# Altium footprint library QFN.PcbLib: 6 footprints
Each footprint in its own frame and in the unit in brackets; x right, y up, seen from the top. Pads: shape width x height; smd on the part's side, far side on the other; paste and mask are expansions set on the pad; w line width, h text height; cw(c..) or ccw(c..) is an arc to the next point about the centre after c.
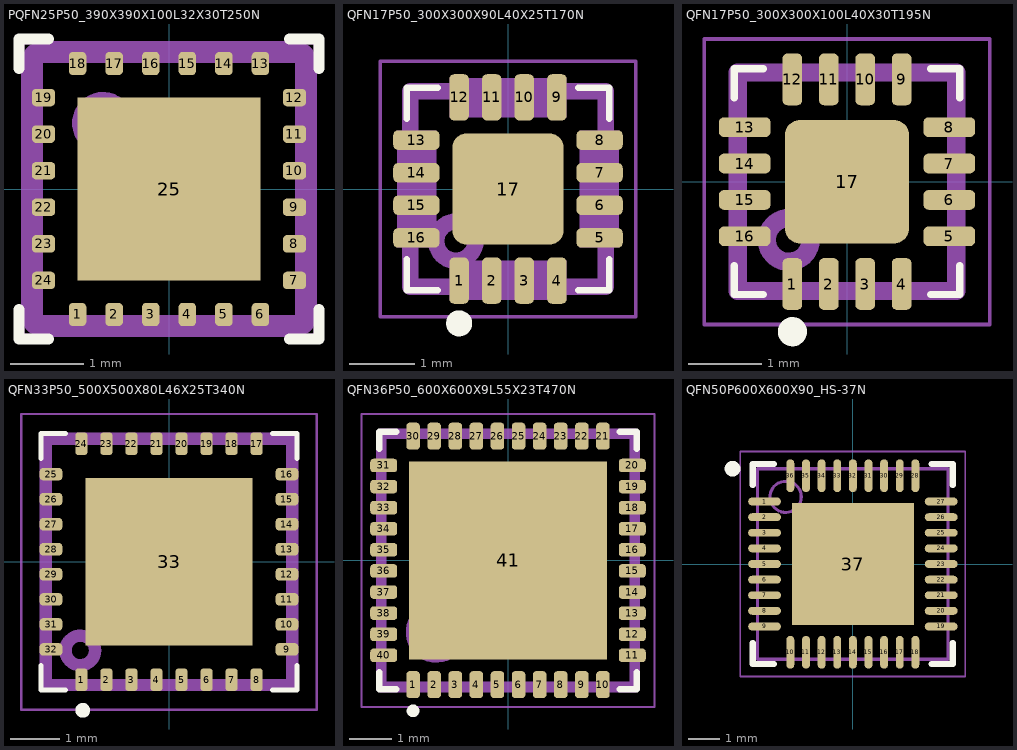
[diagram p0: the footprints below, top view; thin cyan lines are the x and y axes]

## PQFN25P50_390X390X100L32X30T250N [mm] "Pullback Quad Flat No-Lead (PQFN with Tab), 0.50 mm pitch; square, 6 pin X 6 pin, 3.90 mm L X 3.90 mm W X 1.00 mm H body"
height 1
pads (25):
  rrect51% 0.24x0.32 smd: 1(-1.25,-1.715) 2(-0.75,-1.715) 3(-0.25,-1.715) 4(0.25,-1.715) 5(0.75,-1.715) 6(1.25,-1.715) 13(1.25,1.715) 14(0.75,1.715) 15(0.25,1.715) 16(-0.25,1.715) 17(-0.75,1.715) 18(-1.25,1.715)
  rrect51% 0.32x0.24 smd: 7(1.715,-1.25) 8(1.715,-0.75) 9(1.715,-0.25) 10(1.715,0.25) 11(1.715,0.75) 12(1.715,1.25) 19(-1.715,1.25) 20(-1.715,0.75) 21(-1.715,0.25) 22(-1.715,-0.25) 23(-1.715,-0.75) 24(-1.715,-1.25)
  rect 2.5x2.5 smd: 25(0,0)
Top Overlay:
  lines w0.15: -2.05,-1.65 -2.05,-2.05 -1.65,-2.05 ; -2.05,1.65 -2.05,2.05 -1.65,2.05 ; 1.65,-2.05 2.05,-2.05 2.05,-1.65 ; 1.65,2.05 2.05,2.05 2.05,1.65
Top Paste:
  region: -0.185,-1.065 -1.065,-1.065 -1.065,-0.185 -0.185,-0.185
  region: -0.185,0.185 -1.065,0.185 -1.065,1.065 -0.185,1.065
  region: 1.065,-1.065 0.185,-1.065 0.185,-0.185 1.065,-0.185
  region: 1.065,0.185 0.185,0.185 0.185,1.065 1.065,1.065
Top Assembly:
  circle w0.25: c-0.9,0.9 r0.3
  lines w0.25: -1.85,-1.85 -1.85,1.85 1.85,1.85 1.85,-1.85 -1.85,-1.85
  text ".Designator" at 0.1,0.1 h1.5
Top Courtyard:
  circle w0.05: c0,0 r0.25
  lines w0.05: -0.35,0 0.35,0 ; 0,-0.35 0,0.35 ; -2,-2 2,-2 2,2 -2,2 -2,-2
3D body "PQFN25P50_390X390X100L32X30T250.STEP": height 1, standoff 0, extent -1.95,-1.95 1.95,1.95

## QFN17P50_300X300X90L40X25T170N [mm] "Quad Flat No-Lead (QFN with Tab), 0.50 mm pitch; square, 4 pin X 4 pin, 3.00 mm L X 3.00 mm W X 0.90 mm H body"
height 0.9
pads (17):
  rrect51% 0.3x0.71 smd: 1(-0.75,-1.405) 2(-0.25,-1.405) 3(0.25,-1.405) 4(0.75,-1.405) 9(0.75,1.405) 10(0.25,1.405) 11(-0.25,1.405) 12(-0.75,1.405)
  rrect51% 0.71x0.3 smd: 5(1.405,-0.75) 6(1.405,-0.25) 7(1.405,0.25) 8(1.405,0.75) 13(-1.405,0.75) 14(-1.405,0.25) 15(-1.405,-0.25) 16(-1.405,-0.75)
  rrect24% 1.7x1.7 smd paste-1.7: 17(0,0)
Top Overlay:
  circle w0.2: c-0.75,-2.06 r0.1
  lines w0.1: -1.55,-1.08 -1.55,-1.55 -1.08,-1.55 ; -1.55,1.08 -1.55,1.55 -1.08,1.55 ; 1.08,-1.55 1.55,-1.55 1.55,-1.08 ; 1.08,1.55 1.55,1.55 1.55,1.08
Top Paste:
  region: -0.085,0.085 -0.685,0.085 -0.685,0.685 -0.085,0.685
  region: -0.085,-0.685 -0.685,-0.685 -0.685,-0.085 -0.085,-0.085
  region: 0.685,0.085 0.085,0.085 0.085,0.685 0.685,0.685
  region: 0.685,-0.685 0.085,-0.685 0.085,-0.085 0.685,-0.085
Top Assembly:
  circle w0.25: c-0.8,-0.8 r0.3
  region: 0.9,-1.7 0.9,-1.1 -0.9,-1.1 -0.9,-1.7
  region: 0.9,1.1 0.9,1.7 -0.9,1.7 -0.9,1.1
  rectangle: -1.7,-0.9 -1.1,0.9
  rectangle: 1.1,-0.9 1.7,0.9
  lines w0.25: -1.5,-1.5 1.5,-1.5 1.5,1.5 -1.5,1.5 -1.5,-1.5
  text ".Designator" at -0.6,-0.4 h1.5
Top Courtyard:
  circle w0.05: c0,0 r0.25
  lines w0.05: -0.35,0 0.35,0 ; 0,-0.35 0,0.35 ; -1.96,-1.96 1.96,-1.96 1.96,1.96 -1.96,1.96 -1.96,-1.96
3D body "QFN17P50_300X300X90L40X34T170.STEP": height 0.9, standoff 0, extent -1.55,-1.55 1.55,1.55

## QFN17P50_300X300X100L40X30T195N [mm] "Quad Flat No-Lead (QFN with Tab), 0.50 mm pitch; square, 4 pin X 4 pin, 3.00 mm L X 3.00 mm W X 1.00 mm H body"
height 1
pads (17):
  rrect51% 0.27x0.71 smd: 1(-0.75,-1.405) 2(-0.25,-1.405) 3(0.25,-1.405) 4(0.75,-1.405) 9(0.75,1.405) 10(0.25,1.405) 11(-0.25,1.405) 12(-0.75,1.405)
  rrect51% 0.71x0.27 smd: 5(1.405,-0.75) 6(1.405,-0.25) 7(1.405,0.25) 8(1.405,0.75) 13(-1.405,0.75) 14(-1.405,0.25) 15(-1.405,-0.25) 16(-1.405,-0.75)
  rrect24% 1.7x1.7 smd paste-1.7: 17(0,0)
Top Overlay:
  circle w0.2: c-0.75,-2.06 r0.1
  lines w0.1: -1.55,-1.15 -1.55,-1.55 -1.15,-1.55 ; -1.55,1.15 -1.55,1.55 -1.15,1.55 ; 1.15,-1.55 1.55,-1.55 1.55,-1.15 ; 1.15,1.55 1.55,1.55 1.55,1.15
Top Paste:
  region: -0.085,0.085 -0.685,0.085 -0.685,0.685 -0.085,0.685
  region: -0.085,-0.685 -0.685,-0.685 -0.685,-0.085 -0.085,-0.085
  region: 0.685,0.085 0.085,0.085 0.085,0.685 0.685,0.685
  region: 0.685,-0.685 0.085,-0.685 0.085,-0.085 0.685,-0.085
Top Assembly:
  circle w0.25: c-0.8,-0.8 r0.3
  lines w0.25: -1.5,-1.5 1.5,-1.5 1.5,1.5 -1.5,1.5 -1.5,-1.5
  text ".Designator" at -1.9,2 h1.5
Top Courtyard:
  circle w0.05: c0,0 r0.25
  lines w0.05: -0.35,0 0.35,0 ; 0,-0.35 0,0.35 ; -1.96,-1.96 1.96,-1.96 1.96,1.96 -1.96,1.96 -1.96,-1.96
3D body "QFN17P50_300X300X90L40X34T170.STEP": height 0.9, standoff 0, extent -1.55,-1.55 1.55,1.55

## QFN33P50_500X500X80L46X25T340N [mm] "Quad Flat No-Lead (QFN with Tab), 0.50 mm pitch; square, 8 pin X 8 pin, 5.00 mm L X 5.00 mm W X 0.80 mm H body"
height 1.8
pads (33):
  rrect54% 0.25x0.46 smd: 1(-1.778,-2.395) 2(-1.27,-2.395) 3(-0.762,-2.395) 4(-0.254,-2.395) 5(0.254,-2.395) 6(0.762,-2.395) 7(1.27,-2.395) 8(1.778,-2.395) 17(1.778,2.395) 18(1.27,2.395) 19(0.762,2.395) 20(0.254,2.395) 21(-0.254,2.395) 22(-0.762,2.395) 23(-1.27,2.395) 24(-1.778,2.395)
  rrect54% 0.46x0.25 smd: 9(2.395,-1.778) 10(2.395,-1.27) 11(2.395,-0.762) 12(2.395,-0.254) 13(2.395,0.254) 14(2.395,0.762) 15(2.395,1.27) 16(2.395,1.778) 25(-2.395,1.778) 26(-2.395,1.27) 27(-2.395,0.762) 28(-2.395,0.254) 29(-2.395,-0.254) 30(-2.395,-0.762) 31(-2.395,-1.27) 32(-2.395,-1.778)
  rect 3.4x3.4 smd: 33(0,0)
Top Overlay:
  circle w0.15: c-1.75,-3.015 r0.075
  lines w0.1: -2.6,-2.1 -2.6,-2.6 -2.1,-2.6 ; -2.6,2.1 -2.6,2.6 -2.1,2.6 ; 2.1,-2.6 2.6,-2.6 2.6,-2.1 ; 2.1,2.6 2.6,2.6 2.6,2.1
Top Assembly:
  circle w0.25: c-1.8,-1.8 r0.3
  lines w0.25: -2.5,-2.5 2.5,-2.5 2.5,2.5 -2.5,2.5 -2.5,-2.5
  text ".Designator" at -2.2,-0.3 h1.5
Top Courtyard:
  circle w0.05: c0,0 r0.25
  lines w0.05: -0.35,0 0.35,0 ; 0,-0.35 0,0.35 ; -3,-3 3,-3 3,3 -3,3 -3,-3
3D body "QFN33P50_500X500X80L40X24T365.STEP": height 0.8, standoff 0, extent -2.55,-2.55 2.55,2.55

## QFN36P50_600X600X9L55X23T470N [mm] "Quad Flat No-Lead (QFN with Tab), 0.50 mm pitch; square, 10 pin X 10 pin, 6.00 mm L X 6.00 mm W X 0.80 mm H body"
height 0.8
pads (41):
  rrect50% 0.32x0.64 smd: 1(-2.25,-2.945) 2(-1.75,-2.945) 3(-1.25,-2.945) 4(-0.75,-2.945) 5(-0.25,-2.945) 6(0.25,-2.945) 7(0.75,-2.945) 8(1.25,-2.945) 9(1.75,-2.945) 10(2.25,-2.945) 21(2.25,2.945) 22(1.75,2.945) 23(1.25,2.945) 24(0.75,2.945) 25(0.25,2.945) 26(-0.25,2.945) 27(-0.75,2.945) 28(-1.25,2.945) 29(-1.75,2.945) 30(-2.25,2.945)
  rrect50% 0.64x0.32 smd: 11(2.945,-2.25) 12(2.945,-1.75) 13(2.945,-1.25) 14(2.945,-0.75) 15(2.945,-0.25) 16(2.945,0.25) 17(2.945,0.75) 18(2.945,1.25) 19(2.945,1.75) 20(2.945,2.25) 31(-2.945,2.25) 32(-2.945,1.75) 33(-2.945,1.25) 34(-2.945,0.75) 35(-2.945,0.25) 36(-2.945,-0.25) 37(-2.945,-0.75) 38(-2.945,-1.25) 39(-2.945,-1.75) 40(-2.945,-2.25)
  rect 4.7x4.7 smd paste-4.7: 41(0,0)
Top Overlay:
  circle w0.15: c-2.25,-3.565 r0.075
  lines w0.15: -3.05,-2.65 -3.05,-3.05 -2.65,-3.05 ; -3.05,2.65 -3.05,3.05 -2.65,3.05 ; 2.65,-3.05 3.05,-3.05 3.05,-2.65 ; 2.65,3.05 3.05,3.05 3.05,2.65
Top Paste:
  region: 2.005,-2.005 0.345,-2.005 0.345,-0.345 2.005,-0.345
  region: 2.005,0.345 0.345,0.345 0.345,2.005 2.005,2.005
  region: -0.345,-2.005 -2.005,-2.005 -2.005,-0.345 -0.345,-0.345
  region: -0.345,0.345 -2.005,0.345 -2.005,2.005 -0.345,2.005
Top Assembly:
  circle w0.25: c-1.7,-1.7 r0.6
  lines w0.25: -3,-3 -3,3 3,3 3,-3 -3,-3
  text ".Designator" at -2.3,-0.4 h1.5
Top Courtyard:
  circle w0.05: c0,0 r0.25
  lines w0.05: -0.35,0 0.35,0 ; 0,-0.35 0,0.35 ; -3.47,-3.47 -3.47,3.47 3.47,3.47 3.47,-3.47 -3.47,-3.47
3D body "QFN41P50_600X600X80L30X30T470.STEP": height 0.8, standoff 0, extent -3.05,-3.05 3.05,3.05

## QFN50P600X600X90_HS-37N [mm] "QFN, 36-Leads, Body 6,00x6,00mm, Pitch 0,50mm, Thermal Pad 3,90x3,90mm, IPC Medium Density"
height 0.9
pads (37):
  oval 1.05x0.25 smd: 1(-2.825,2) 2(-2.825,1.5) 3(-2.825,1) 4(-2.825,0.5) 5(-2.825,0) 6(-2.825,-0.5) 7(-2.825,-1) 8(-2.825,-1.5) 9(-2.825,-2) 19(2.825,-2) 20(2.825,-1.5) 21(2.825,-1) 22(2.825,-0.5) 23(2.825,0) 24(2.825,0.5) 25(2.825,1) 26(2.825,1.5) 27(2.825,2)
  oval 0.25x1.05 smd: 10(-2,-2.825) 11(-1.5,-2.825) 12(-1,-2.825) 13(-0.5,-2.825) 14(0,-2.825) 15(0.5,-2.825) 16(1,-2.825) 17(1.5,-2.825) 18(2,-2.825) 28(2,2.825) 29(1.5,2.825) 30(1,2.825) 31(0.5,2.825) 32(0,2.825) 33(-0.5,2.825) 34(-1,2.825) 35(-1.5,2.825) 36(-2,2.825)
  rect 3.9x3.9 smd: 37(0,0)
Top Overlay:
  circle w0.25: c-3.85,3.05 r0.125
  lines w0.2: -3.2,-2.525 -3.2,-3.2 -2.525,-3.2 ; -3.2,2.525 -3.2,3.2 -2.525,3.2 ; 2.525,-3.2 3.2,-3.2 3.2,-2.525 ; 2.525,3.2 3.2,3.2 3.2,2.525
Top Solder:
  rectangle: -3.3,-2 -2.3,2
  region: -2,3.3 -2,2.3 2,2.3 2,3.3
  region: 2,-3.3 2,-2.3 -2,-2.3 -2,-3.3
  rectangle: 2.3,-2 3.3,2
Top Assembly:
  circle w0.1: c-2.15,2.15 r0.5
  lines w0.1: -3.05,-3.05 3.05,-3.05 3.05,3.05 -3.05,3.05 -3.05,-3.05
  text ".Designator" at -2.3,-0.4 h1.5
Top Courtyard:
  lines w0.05: -3.6,-3.6 3.6,-3.6 3.6,3.6 -3.6,3.6 -3.6,-3.6
  lines w0.1: -0.5,0 0.5,0 ; 0,-0.5 0,0.5
3D body "QFN50P600X600X90_HS-37N.step": height 0.9, standoff 0, extent -3.051,-3.051 3.051,3.051